# EAGLE library part 6-POS-SCREW-TERM-PT-5MM (library myhvac)
WAGO SCREW CLAMP
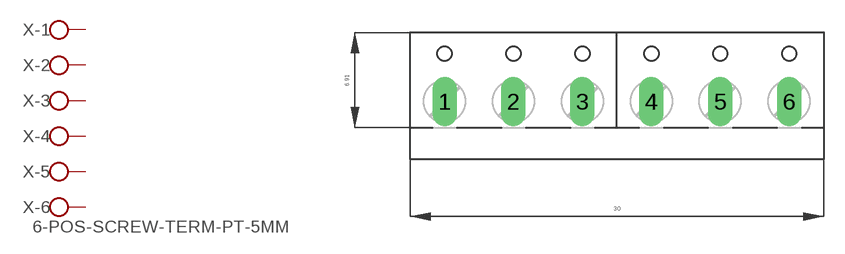
[diagram p5: symbol with the pads of 6-POS-SCREW-TERM-PT-5MM; footprint 6-POS-SCREW-TERM-PT-5MM]

Designator prefix X; gates -1=KL -2=KL -3=KL -4=KL -5=KL -6=KL+V

## 6-POS-SCREW-TERM-PT-5MM (OC_FARNELL: unknown; OC_NEWARK: unknown)  [6-POS-SCREW-TERM-PT-5MM]
1  -1:KL  pas
2  -2:KL  pas
3  -3:KL  pas
4  -4:KL  pas
5  -5:KL  pas
6  -6:KL  pas

## Footprint 6-POS-SCREW-TERM-PT-5MM (pad centres in mm)
WAGO SCREW CLAMP
drill 1.194 long: 1 -12.5,-1.27; 2 -7.5,-1.27; 3 -2.5,-1.27; 4 2.5,-1.27; 5 7.5,-1.27; 6 12.5,-1.27